# Altium schematic symbol library 2450BP15E0100E.SchLib: 1 symbol
Pins are listed as number, name and electrical type; pins without a type are passive.

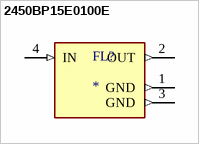
[diagram p0: symbol 2450BP15E0100E]

## 2450BP15E0100E
designator FL?
Ceramic Filters Band Pass 1.5dB 50Ohm SMD 4Pin T/R; MF: {'manufacturer': u'Johanson Technology'}; MP: 2450BP15E0100E; Package: None; Price: None; Value: *; Availability: Unavailable
footprint FIL_2450BP15E0100E
pins: 1 GND (out), 2 OUT (out), 3 GND (out), 4 IN (in)